# Altium footprint library Flyback Transformer.PcbLib: 1 footprints
Each footprint in its own frame and in the unit in brackets; x right, y up, seen from the top. Pads: shape width x height; smd on the part's side, far side on the other; paste and mask are expansions set on the pad; w line width, h text height; cw(c..) or ccw(c..) is an arc to the next point about the centre after c.
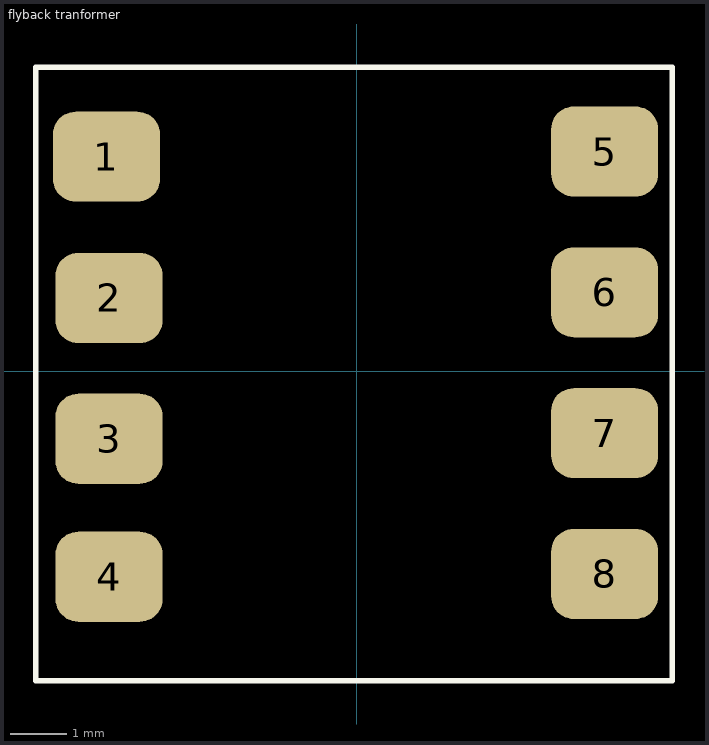
[diagram p0: the footprint, top view; thin cyan lines are the x and y axes]

## flyback tranformer [mm]
pads (8):
  rrect50% 1.9x1.6 smd: 1(-4.445,3.81) 2(-4.4,1.3) 3(-4.4,-1.2) 4(-4.4,-3.65) 5(4.4,3.9) 6(4.4,1.4) 7(4.4,-1.1) 8(4.4,-3.6)
Top Overlay:
  lines w0.1: -5.7,-5.5 -5.7,5.4 5.6,5.4 5.6,-5.5 2.775,-5.5 -2.875,-5.5 -5.7,-5.5
3D body "Coilcraft-YA8864-BL.STEP": height 10.63, standoff 0.02, extent -4.4,-5.1 4.4,5.1